# Altium footprint library buck5to3_3A.PcbLib: 1 footprints
Each footprint in its own frame and in the unit in brackets; x right, y up, seen from the top. Pads: shape width x height; smd on the part's side, far side on the other; paste and mask are expansions set on the pad; w line width, h text height; cw(c..) or ccw(c..) is an arc to the next point about the centre after c.
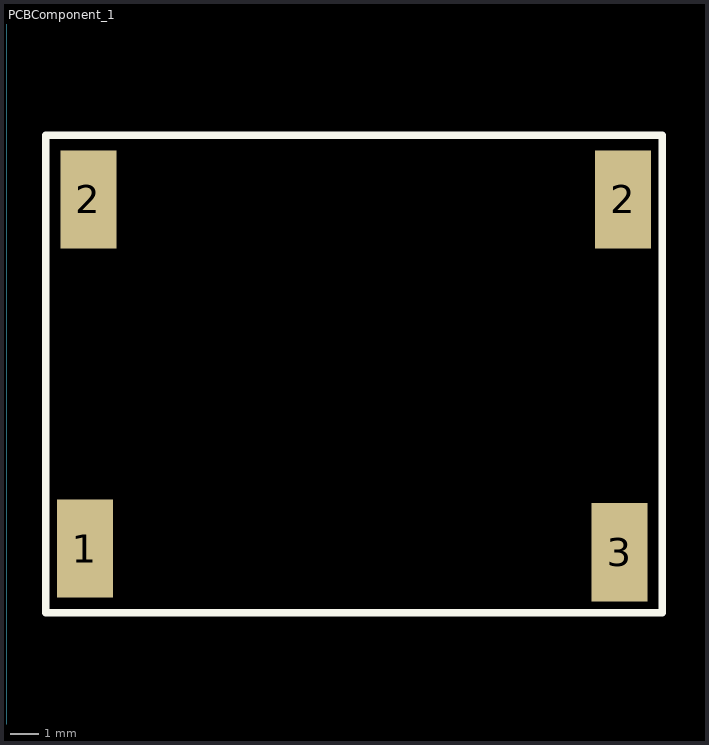
[diagram p0: the footprint, top view; thin cyan lines are the x and y axes]

## PCBComponent_1 [mm]
pads (4):
  rect 2x3.5 smd: 1(2.794,22.098) 2(2.921,34.544) 2(21.971,34.544) 3(21.844,21.971)
Top Overlay:
  lines w0.254: 1.397,19.812 23.368,19.812 ; 1.397,19.83 1.397,36.83 23.368,36.83 23.368,19.83